# Altium footprint library WSON (DSC).PcbLib: 2 footprints
Each footprint in its own frame and in the unit in brackets; x right, y up, seen from the top. Pads: shape width x height; smd on the part's side, far side on the other; paste and mask are expansions set on the pad; w line width, h text height; cw(c..) or ccw(c..) is an arc to the next point about the centre after c.
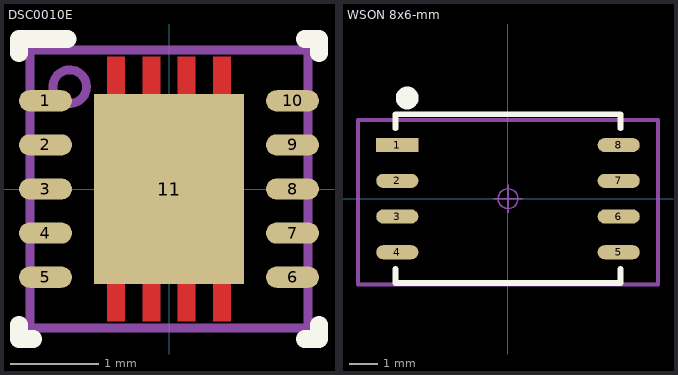
[diagram p0: the footprints below, top view; thin cyan lines are the x and y axes]

## DSC0010E [mm]
pads (11):
  oval 0.6x0.24 smd paste+0 mask+0.051: 1(-1.4,1) 2(-1.4,0.5) 3(-1.4,0) 4(-1.4,-0.5) 5(-1.4,-1) 6(1.4,-1) 7(1.4,-0.5) 8(1.4,0) 9(1.4,0.5) 10(1.4,1)
  rect 1.7x2.15 smd paste-1.062 mask+0.051: 11(0,0)
Top Layer:
  region: -0.7,-1.06 -0.7,-1.5 -0.5,-1.5 -0.5,-1.06
  region: -0.3,-1.06 -0.3,-1.5 -0.1,-1.5 -0.1,-1.06
  region: 0.3,-1.5 0.3,-1.06 0.1,-1.06 0.1,-1.5
  region: 0.7,-1.5 0.7,-1.06 0.5,-1.06 0.5,-1.5
  region: 0.7,1.06 0.7,1.5 0.5,1.5 0.5,1.06
  region: 0.3,1.06 0.3,1.5 0.1,1.5 0.1,1.06
  region: -0.3,1.5 -0.3,1.06 -0.1,1.06 -0.1,1.5
  region: -0.7,1.5 -0.7,1.06 -0.5,1.06 -0.5,1.5
Top Overlay:
  lines w0.2: -1.7,-1.54 -1.7,-1.7 -1.54,-1.7 ; -1.7,1.54 -1.7,1.7 -1.15,1.7 ; 1.54,-1.7 1.7,-1.7 1.7,-1.54 ; 1.54,1.7 1.7,1.7 1.7,1.54
Top Paste:
  region: 0.775,-0.1 -0.775,-0.1 -0.775,-1.075 0.775,-1.075
  region: -0.775,0.1 0.775,0.1 0.775,1.075 -0.775,1.075
Top Solder:
  region: -0.751,-1.009 -0.751,-1.551 -0.449,-1.551 -0.449,-1.009
  region: -0.351,-1.009 -0.351,-1.551 -0.049,-1.551 -0.049,-1.009
  region: 0.351,-1.551 0.351,-1.009 0.049,-1.009 0.049,-1.551
  region: 0.751,-1.551 0.751,-1.009 0.449,-1.009 0.449,-1.551
  region: 0.751,1.009 0.751,1.551 0.449,1.551 0.449,1.009
  region: 0.351,1.009 0.351,1.551 0.049,1.551 0.049,1.009
  region: -0.351,1.551 -0.351,1.009 -0.049,1.009 -0.049,1.551
  region: -0.751,1.551 -0.751,1.009 -0.449,1.009 -0.449,1.551
Mechanical 13:
  circle w0.1: c-1.125,1.16 r0.19
  lines w0.1: 1.575,-1.575 1.575,1.575 -1.575,1.575 -1.575,-1.575 1.55,-1.575 1.575,-1.55
Mechanical 15:
  circle w0.05: c0,0 r0.35
  lines w0.05: -0.5,0 0.5,0 ; 0,-0.5 0,0.5
3D body "User Library-10WSON.STEP": height 0.7, standoff 0.01, extent -1.505,-1.501 1.505,1.499

## WSON 8x6-mm [mm]
pads (8):
  rect 1.5x0.5 smd: 1(-3.937,1.905)
  oval 1.5x0.5 smd: 2(-3.937,0.635) 3(-3.937,-0.635) 4(-3.937,-1.905) 5(3.937,-1.905) 6(3.937,-0.635) 7(3.937,0.635) 8(3.937,1.905)
Top Overlay:
  circle w0.5: c-3.584,3.581 r0.155
  lines w0.2: -4,-2.5 -4,-3 4,-3 4,-2.5 ; -4,2.5 -4,3 4,3 4,2.5
Mechanical 15:
  circle w0.05: c0,0 r0.35
  lines w0.05: -0.5,0 0.5,0 ; 0,-0.5 0,0.5
  lines w0.15: -5.334,-3.048 5.334,-3.048 5.334,2.794 -5.334,2.794 -5.334,-3.048
3D body "User Library-WSON-8_6x8mm.STEP": height 0.81, standoff -0.07, extent -4,-3 4,3